# Altium footprint library MOSFET.PcbLib: 7 footprints
Each footprint in its own frame and in the unit in brackets; x right, y up, seen from the top. Pads: shape width x height; smd on the part's side, far side on the other; paste and mask are expansions set on the pad; w line width, h text height; cw(c..) or ccw(c..) is an arc to the next point about the centre after c.
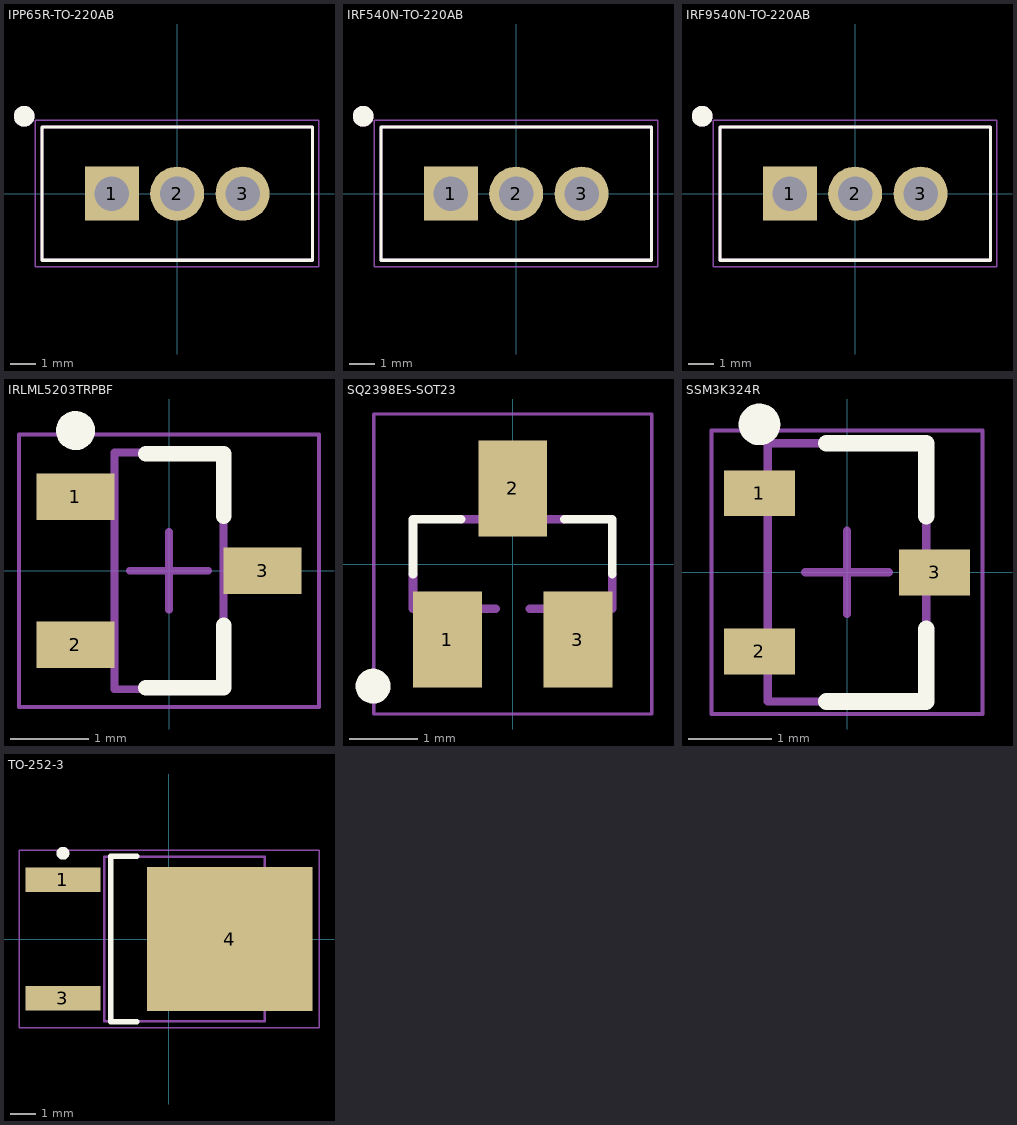
[diagram p0: the footprints below, top view; thin cyan lines are the x and y axes]

## IPP65R-TO-220AB [mm]
pads (3):
  rect 2.1x2.1 hole 1.34: 1(-2.54,0)
  round 2.1 hole 1.34: 2(0,0) 3(2.54,0)
Top Overlay:
  circle w0.4: c-5.95,3.01 r0.2
  lines w0.127: -5.26,-2.59 5.26,-2.59 5.26,2.59 -5.26,2.59 -5.26,-2.59
Top Designator:
  text ".Designator" at -5.998,-0.4 h1.2
Mechanical 13:
  circle w0.4: c-5.95,3.01 r0.2
  lines w0.127: -5.26,-2.59 5.26,-2.59 5.26,2.59 -5.26,2.59 -5.26,-2.59
Mechanical 15:
  lines w0.05: -5.51,-2.845 -5.51,2.845 5.51,2.845 5.51,-2.845 -5.51,-2.845
3D body "to220ab-3_p2-54_l10-51_w4-65.stp": height 20.49, standoff -9.02, extent -5.306,-1.52 5.204,3.15

## IRF540N-TO-220AB [mm]
pads (3):
  rect 2.1x2.1 hole 1.34: 1(-2.54,0)
  round 2.1 hole 1.34: 2(0,0) 3(2.54,0)
Top Overlay:
  circle w0.4: c-5.95,3.01 r0.2
  lines w0.127: -5.26,-2.59 5.26,-2.59 5.26,2.59 -5.26,2.59 -5.26,-2.59
Top Designator:
  text ".Designator" at -5.998,-0.4 h1.2
Mechanical 13:
  circle w0.4: c-5.95,3.01 r0.2
  lines w0.127: -5.26,-2.59 5.26,-2.59 5.26,2.59 -5.26,2.59 -5.26,-2.59
Mechanical 15:
  lines w0.05: -5.51,-2.845 -5.51,2.845 5.51,2.845 5.51,-2.845 -5.51,-2.845
3D body "to220ab-3_p2-54_l10-51_w4-65.stp": height 20.49, standoff -9.02, extent -5.306,-1.52 5.204,3.15

## IRF9540N-TO-220AB [mm]
pads (3):
  rect 2.1x2.1 hole 1.34: 1(-2.54,0)
  round 2.1 hole 1.34: 2(0,0) 3(2.54,0)
Top Overlay:
  circle w0.4: c-5.95,3.01 r0.2
  lines w0.127: -5.26,-2.59 5.26,-2.59 5.26,2.59 -5.26,2.59 -5.26,-2.59
Top Designator:
  text ".Designator" at -5.998,-0.4 h1.2
Mechanical 13:
  circle w0.4: c-5.95,3.01 r0.2
  lines w0.127: -5.26,-2.59 5.26,-2.59 5.26,2.59 -5.26,2.59 -5.26,-2.59
Mechanical 15:
  lines w0.05: -5.51,-2.845 -5.51,2.845 5.51,2.845 5.51,-2.845 -5.51,-2.845
3D body "to220ab-3_p2-54_l10-51_w4-65.stp": height 20.49, standoff -9.02, extent -5.306,-1.52 5.204,3.15

## IRLML5203TRPBF [mm] "SOT23, 3-Leads, Body 2.92x2.37mm, Pitch 0.95mm, IPC Medium Density"
height 1.12
pads (3):
  rect 1x0.6 smd: 1(-1.2,0.95) 2(-1.2,-0.95) 3(1.2,0)
Top Overlay:
  circle w0.25: c-1.2,1.8 r0.125
  lines w0.2: -0.3,-1.5 0.7,-1.5 0.7,-0.7 ; -0.3,1.5 0.7,1.5 0.7,0.7
Mechanical 13:
  lines w0.1: -0.7,-1.52 0.7,-1.52 0.7,1.52 -0.7,1.52 -0.7,-1.52
Mechanical 15:
  lines w0.05: -1.925,-1.75 1.925,-1.75 1.925,1.75 -1.925,1.75 -1.925,-1.75
  lines w0.1: -0.5,0 0.5,0 ; 0,-0.5 0,0.5
3D body "SOT95P237X112-3N.step": height 1.12, standoff 0, extent -1.32,-1.52 1.32,1.52

## SQ2398ES-SOT23 [mm]
pads (3):
  rect 1x1.4 smd: 1(-0.95,-1.1) 2(0,1.1) 3(0.95,-1.1)
Top Overlay:
  circle w0.254: c-2.032,-1.778 r0.127
  lines w0.127: -1.45,-0.15 -1.45,0.65 -0.75,0.65 ; 0.75,0.65 1.45,0.65 1.45,-0.15
Top Designator:
  text ".Designator" at -5.998,-0.4 h1.2
Mechanical 13:
  region: -0.711,-1.298 -1.171,-1.298 -1.171,-0.711 -0.711,-0.711
  region: 1.168,-1.296 0.712,-1.296 0.712,-0.711 1.168,-0.711
  region: 0.229,0.711 -0.229,0.711 -0.229,1.295 0.229,1.295
  lines w0.127: -1.45,-0.15 -1.45,-0.65 -0.25,-0.65 ; -0.75,0.65 0.75,0.65 ; 0.25,-0.65 1.45,-0.65 1.45,-0.15
Mechanical 15:
  lines w0.051: -2.023,-2.183 -2.023,2.183 2.023,2.183 2.023,-2.183 -2.023,-2.183
3D body "MMBT3904.STEP": height 1.1, standoff 0, extent -1.45,-1.3 1.45,1.2

## SSM3K324R [mm] "SOTFL, 3-Leads, Body 2.90x2.40mm, Pitch 0.95mm, IPC Medium Density"
height 0.8
pads (3):
  rect 0.85x0.55 smd: 1(-1.05,0.95) 2(-1.05,-0.95) 3(1.05,0)
Top Overlay:
  circle w0.25: c-1.05,1.775 r0.125
  lines w0.2: -0.25,-1.55 0.95,-1.55 0.95,-0.675 ; -0.25,1.55 0.95,1.55 0.95,0.675
Top Designator:
  text ".Designator" at -0.4,5.998 h1.2
Mechanical 13:
  lines w0.1: -0.95,-1.55 0.95,-1.55 0.95,1.55 -0.95,1.55 -0.95,-1.55
Mechanical 15:
  lines w0.05: -1.625,-1.7 1.625,-1.7 1.625,1.7 -1.625,1.7 -1.625,-1.7
  lines w0.1: -0.5,0 0.5,0 ; 0,-0.5 0,0.5
3D body "SOTFL95P240X80-3N.step": height 0.8, standoff 0, extent -1.2,-1.548 1.2,1.548

## TO-252-3 [mm] "D-PAK, 3-Pads, Body 6.20x6.54mm (max), IPC Medium Density"
height 2.38
pads (3):
  rect 2.9x0.95 smd: 1(-4.1,2.29) 3(-4.1,-2.29)
  rect 6.4x5.55 smd: 4(2.35,0)
Top Overlay:
  circle w0.25: c-4.1,3.315 r0.125
  lines w0.2: -1.25,-3.2 -2.25,-3.2 -2.25,3.2 -1.25,3.2
Top Designator:
  text ".Designator" at -0.4,5.998 h1.2
Mechanical 13:
  lines w0.1: -2.5,-3.175 3.7,-3.175 3.7,3.175 -2.5,3.175 -2.5,-3.175
Mechanical 15:
  lines w0.05: -5.8,-3.425 5.8,-3.425 5.8,3.425 -5.8,3.425 -5.8,-3.425
  lines w0.1: -0.5,0 0.5,0 ; 0,-0.5 0,0.5
3D body "DPAK229P990X238-3N.step": height 2.38, standoff 0, extent -4.615,-3.175 5.285,3.175